# EAGLE library part ADT (library minicircuits1)
Wide band RF transformer
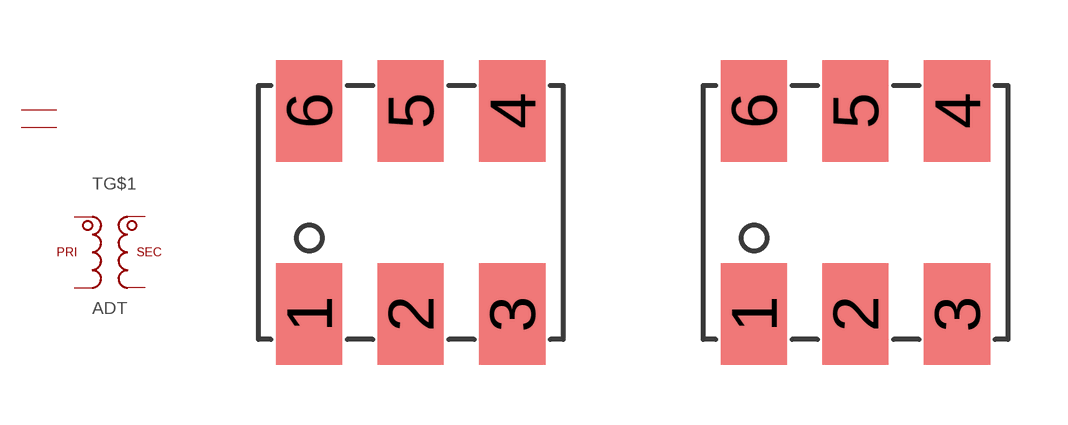
[diagram p11: symbol with the pads of CD637; footprints CD637, CD636]

Designator prefix T; gates G$1=T G$2=NC G$3=NC

## ADT4-6  [CD637]
1  G$1:P2  pas
2  G$2:NC  nc
3  G$1:P1  pas
4  G$1:S1  pas
5  G$3:NC  nc
6  G$1:S2  pas

## ADT16-6  [CD636]
Pads as for CD637

## ADT1.5-2  [CD636]
Pads as for CD637

## ADT1-1  [CD542]
Pads as for CD637

## Footprint CD637 (pad centres in mm)
smd 1.651 x 2.54: 1 0,0; 2 2.54,0; 3 5.08,0; 4 5.08,5.08; 5 2.54,5.08; 6 0,5.08

## Footprint CD636 (pad centres in mm)
CD636 http://www.minicircuits.com/cgi-bin/inquery.cgi?querystring=CD636&searchtype=case&x=21&y=7
smd 1.651 x 2.54: 1 0,0; 2 2.54,0; 3 5.08,0; 4 5.08,5.08; 5 2.54,5.08; 6 0,5.08

## Footprint CD542 (pad centres in mm)
CD542 http://www.minicircuits.com/cgi-bin/inquery.cgi?querystring=CD542&searchtype=case&x=22&y=9
smd 1.651 x 2.54: 1 0,1.27; 2 2.54,1.27; 3 5.08,1.27; 4 5.08,6.35; 5 2.54,6.35; 6 0,6.35